# Altium footprint library BASIC Library.PCBLIB: 464 footprints (part 20 of 30)
Each footprint in its own frame and in the unit in brackets; x right, y up, seen from the top. Pads: shape width x height; smd on the part's side, far side on the other; paste and mask are expansions set on the pad; w line width, h text height; cw(c..) or ccw(c..) is an arc to the next point about the centre after c.
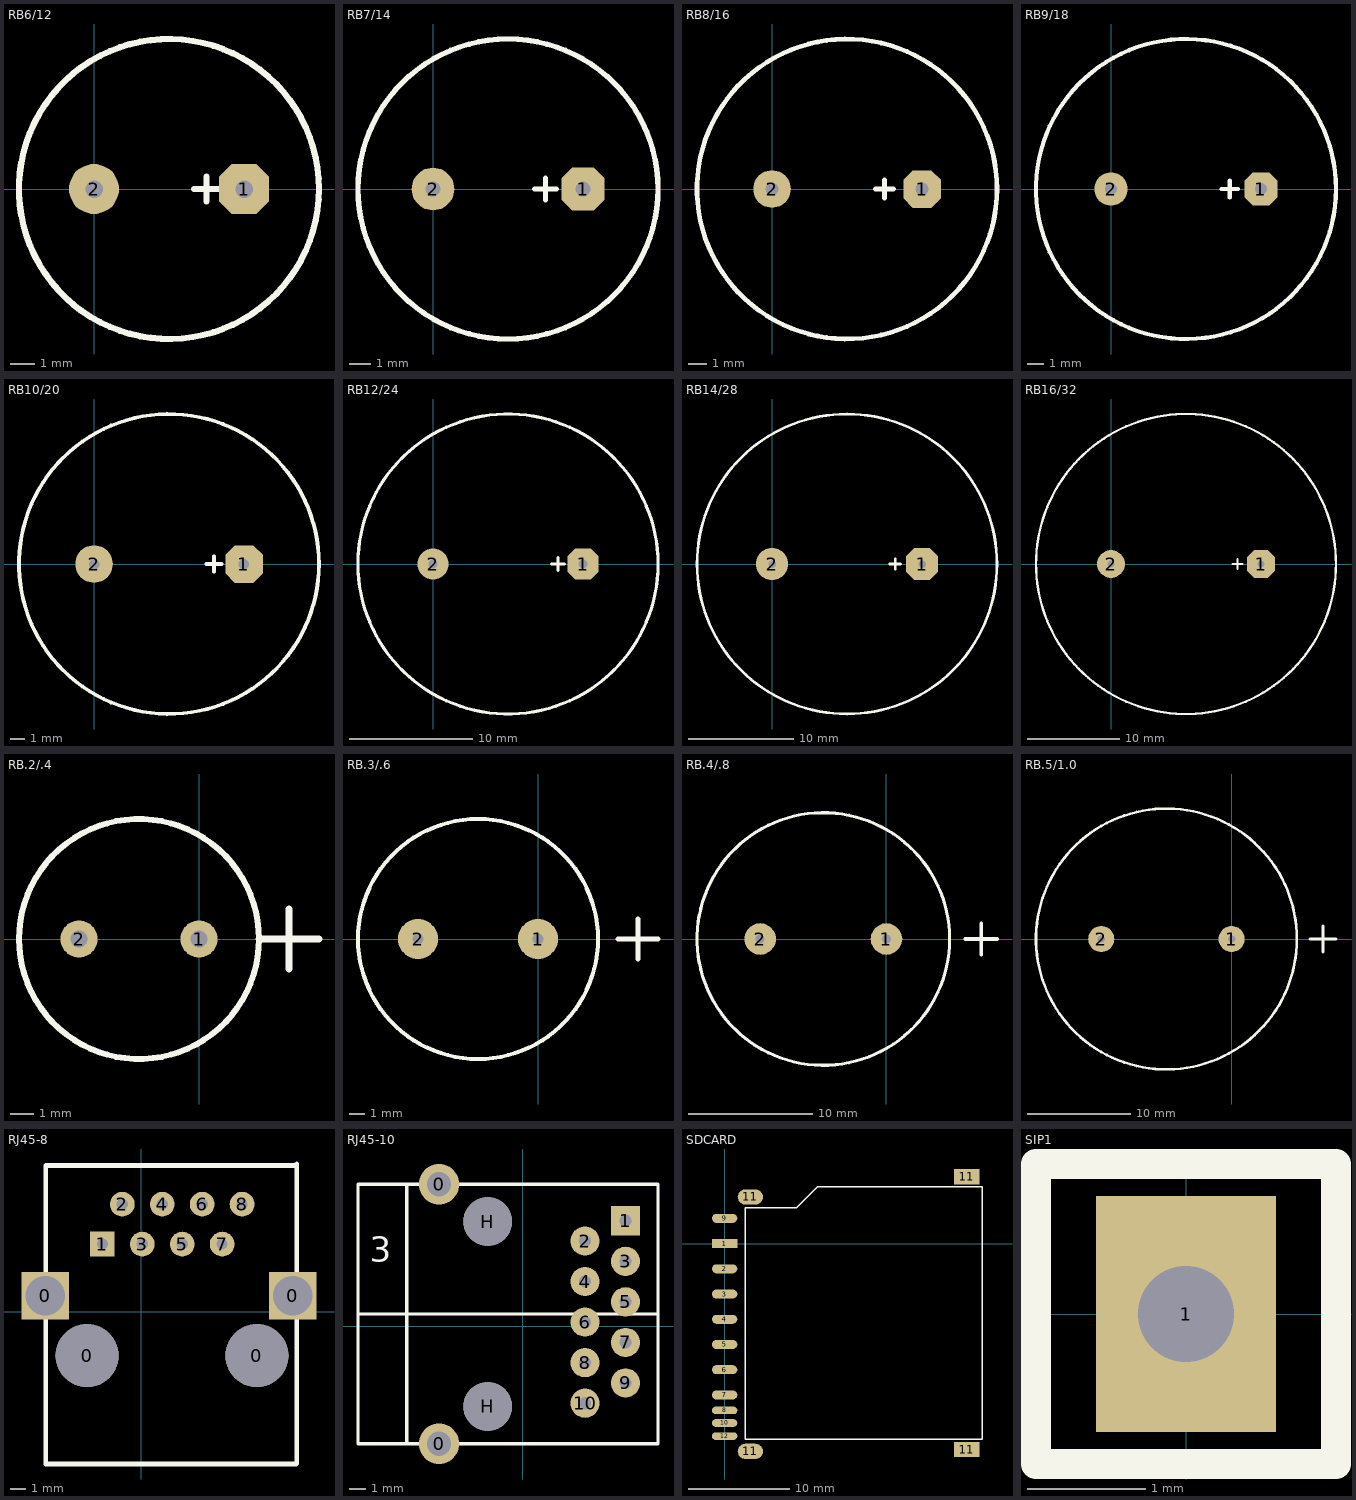
[diagram p19: the footprints below, top view; thin cyan lines are the x and y axes]

## RB6/12 [mil]
pads (2):
  oct 80x80 hole 28: 1(240,0)
  round 80 hole 28: 2(0,0)
TopOverlay:
  circle w10: c120,0 r240
  lines w10: 160,0 200,0 ; 180,-20 180,20

## RB7/14 [mil]
pads (2):
  oct 80x80 hole 28: 1(280,0)
  round 80 hole 28: 2(0,0)
TopOverlay:
  circle w10: c140,0 r280
  lines w10: 190,0 230,0 ; 210,-20 210,20

## RB8/16 [mil]
pads (2):
  oct 80x80 hole 28: 1(320,0)
  round 80 hole 28: 2(0,0)
TopOverlay:
  circle w10: c160,0 r320
  lines w10: 220,0 260,0 ; 240,-20 240,20

## RB9/18 [mil]
pads (2):
  oct 80x80 hole 28: 1(360,0)
  round 80 hole 28: 2(0,0)
TopOverlay:
  circle w10: c180,0 r360
  lines w10: 265,0 305,0 ; 285,-20 285,20

## RB10/20 [mil]
pads (2):
  oct 100x100 hole 28: 1(400,0)
  round 100 hole 28: 2(0,0)
TopOverlay:
  circle w10: c200,0 r400
  lines w10: 300,0 340,0 ; 320,-20 320,20

## RB12/24 [mil]
pads (2):
  oct 100x100 hole 28: 1(480,0)
  round 100 hole 28: 2(0,0)
TopOverlay:
  circle w10: c240,0 r480
  lines w10: 380,0 420,0 ; 400,-20 400,20

## RB14/28 [mil]
pads (2):
  oct 120x120 hole 28: 1(560,0)
  round 120 hole 28: 2(0,0)
TopOverlay:
  circle w10: c280,0 r560
  lines w10: 440,0 480,0 ; 460,-20 460,20

## RB16/32 [mil]
pads (2):
  oct 120x120 hole 28: 1(640,0)
  round 120 hole 28: 2(0,0)
TopOverlay:
  circle w10: c320,0 r640
  lines w10: 520,0 560,0 ; 540,-20 540,20

## RB.2/.4 [mil]
pads (2):
  round 62 hole 28: 1(0,0) 2(-200,0)
TopOverlay:
  circle w10: c-100,0 r200
  lines w12: 100,0 200,0 ; 150,-50 150,50

## RB.3/.6 [mil]
pads (2):
  round 100 hole 28: 1(0,0) 2(-300,0)
TopOverlay:
  circle w10: c-150,0 r300
  lines w12: 200,0 300,0 ; 250,-50 250,50

## RB.4/.8 [mil]
pads (2):
  round 100 hole 28: 1(0,0) 2(-400,0)
TopOverlay:
  circle w10: c-200,0 r400
  lines w12: 250,0 350,0 ; 300,-50 300,50

## RB.5/1.0 [mil]
pads (2):
  round 100 hole 28: 1(0,0) 2(-500,0)
TopOverlay:
  circle w10: c-250,0 r500
  lines w12: 300,0 400,0 ; 350,-50 350,50

## RJ45-8 [mil]
pads (12):
  rect 118.11x118.11 hole 98.42: 0(-240,40) 0(380,40)
  round 157.48 hole 157.48: 0(-135,-110) 0(290,-110)
  rect 62x62 hole 28: 1(-96.89,169.37)
  round 62 hole 28: 2(-46.89,269.37) 3(3.11,169.37) 4(53.11,269.37) 5(103.11,169.37) 6(153.11,269.37) 7(203.11,169.37) 8(253.11,269.37)
TopOverlay:
  lines w12: 388.78,-381.22 352.52,-381.22 -188.03,-381.22 -238.78,-381.22 -238.78,366.22 -213.78,366.22 -187.64,366.22 353.11,366.22 386.22,366.22 388.78,368.78 ; 390,-380 390,370

## RJ45-10 [mm]
pads (14):
  round 2.5 hole 1.5: 0(-5.16,-7.258) 0(-5.16,8.742)
  rect 1.8x1.8 hole 0.762: 1(6.34,6.492)
  round 1.8 hole 0.762: 2(3.84,5.242) 3(6.34,3.992) 4(3.84,2.742) 5(6.34,1.492) 6(3.84,0.242) 7(6.34,-1.008) 8(3.84,-2.258) 9(6.34,-3.508) 10(3.84,-4.758)
  round 3 hole 3: H(-2.16,-4.958) H(-2.16,6.442)
TopOverlay:
  lines w0.2: -10.16,0.742 8.34,0.742 ; -7.16,-7.258 -7.16,8.742 ; -10.16,-7.258 -10.16,8.742 8.34,8.742 8.34,-7.258 -10.16,-7.258
  text "3" at -9.446,3.979 h1.52

## SDCARD [mil]
pads (15):
  rect 98.42x35 smd: 1(0,0)
  oval 98.42x35 smd: 2(0,-98) 3(0,-196) 4(0,-294) 5(0,-392) 6(0,-490) 7(0,-588) 9(0,98)
  oval 98.42x30 smd: 8(0,-648) 10(0,-697) 12(0,-748)
  oval 98.42x59.05 smd: 11(100,-807.09) 11(100,181.1)
  rect 98.42x59.05 smd: 11(940,-800) 11(940,260)
TopOverlay:
  lines w6: 220,140 80,140 ; 780,220 1000,220 1000,-760 880,-760 ; 900,-760 80,-760 80,140 ; 900,220 360,220 280,140 80,140

## SIP1 [mil]
pads (1):
  rect 60x78.74 hole 32: 1(0,0)
TopOverlay:
  lines w10: -50,-50 50,-50 50,50 -50,50 -50,-50